# Altium schematic symbol library kmilo17pet-NSC_Amplifier.SchLib: 1665 symbols (part 43 of 44)
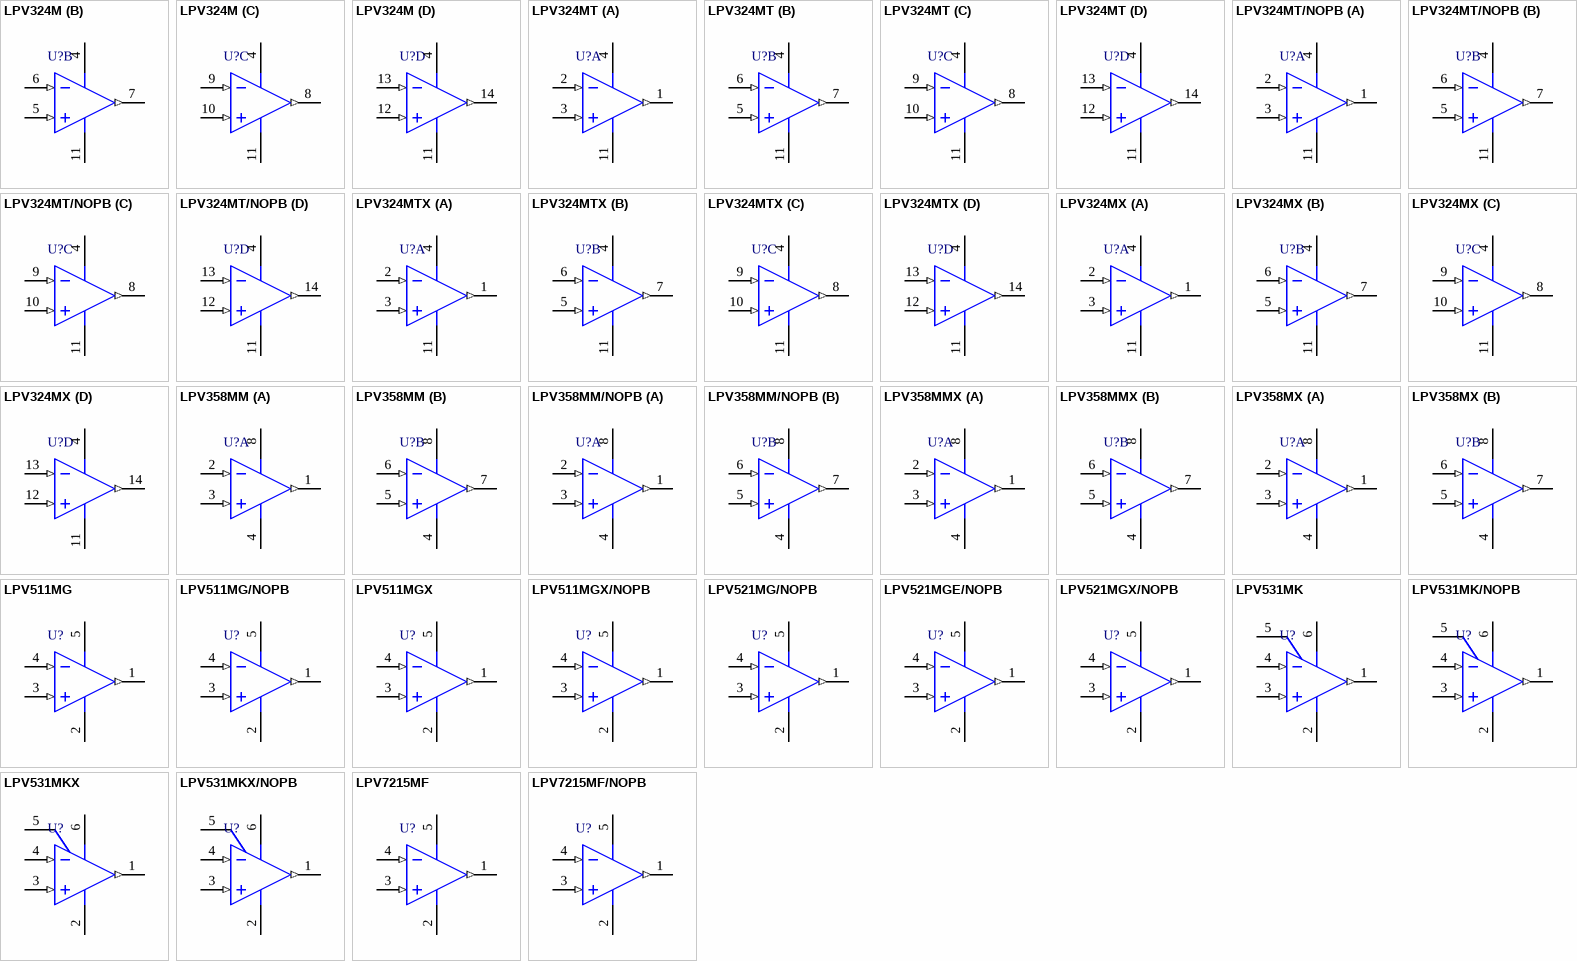
[diagram p126: symbols LPV324M to LPV7215MF/NOPB]

## LPV324M
designator U?
General Purpose, Low Voltage, Low Power, Rail-to-Rail Output Operational Amplifiers, 14-pin Narrow SOIC; PartNumber: LPV324M; Manufacturer: National Semiconductor; PackageTopMarking: NSUZXYTTE#*LPV324M; PowerWise: Y; DatasheetVersion: Oct-2006; PackageVersion: revJ, Jan-1996; PackageReference: M14A; PackageDescription: Molded Package S.O., .150in Wide, 14 Lead; RoHS: N; PinCount: 14; CompType: Amplifiers; High-Reliability: Y; Code_JEDEC: MS-012AB; Code_IPC: SOIC127P600-14; ComponentLink1Description: Manufacturer URL; ComponentLink1URL: http://www.national.com/; ComponentLink2Description: LPV324 Datasheet; ComponentLink2URL: http://www.national.com/ds/LP/LPV324.pdf; ComponentLink3Description: LPV324 Web Page; ComponentLink3URL: http://www.national.com/pf/LP/LPV324.html; ComponentLink4Description: M14A Package Page; ComponentLink4URL: http://www.national.com/packaging/folders/m14a.html
footprint M14A_N (SOIC, 14-Leads, Body 8.6x3.9mm, Pitch 1.27mm, IPC Medium Density)
footprint M14A_L (SOIC, 14-Leads, Body 8.6x3.9mm, Pitch 1.27mm, IPC High Density)
footprint M14A_M (SOIC, 14-Leads, Body 8.6x3.9mm, Pitch 1.27mm, IPC Low Density)
pins on every part: 4 V+ (power), 11 V- (power)
part A pins: 1 OUTA (out), 2 INA- (in), 3 INA+ (in)
part B pins: 5 INB+ (in), 6 INB- (in), 7 OUTB (out)
part C pins: 8 OUTC (out), 9 INC- (in), 10 INC+ (in)
part D pins: 12 IND+ (in), 13 IND- (in), 14 OUTD (out)

## LPV324MT
designator U?
General Purpose, Low Voltage, Low Power, Rail-to-Rail Output Operational Amplifiers, 14-pin TSSOP; PartNumber: LPV324MT; Manufacturer: National Semiconductor; PackageTopMarking: NSXYTT*LPV324*MT; PowerWise: Y; DatasheetVersion: Oct-2006; PackageVersion: revD, Jun-2003; PackageReference: MTC14; PackageDescription: Molded TSSOP, JEDEC, 5 x 4.4 x 0.9mm Body, 14 Lead, 0.65mm Pitch; RoHS: N; PinCount: 14; CompType: Amplifiers; High-Reliability: Y; Code_JEDEC: MO-153-AB-1; ComponentLink1Description: Manufacturer URL; ComponentLink1URL: http://www.national.com/; ComponentLink2Description: LPV324 Datasheet; ComponentLink2URL: http://www.national.com/ds/LP/LPV324.pdf; ComponentLink3Description: LPV324 Web Page; ComponentLink3URL: http://www.national.com/pf/LP/LPV324.html; ComponentLink4Description: MTC14 Package Page; ComponentLink4URL: http://www.national.com/packaging/folders/mtc14.html
footprint MTC14_N (TSOP, 14-Leads, Body 5x4.4mm, Pitch 0.65mm, IPC Medium Density)
footprint MTC14_L (TSOP, 14-Leads, Body 5x4.4mm, Pitch 0.65mm, IPC High Density)
footprint MTC14_M (TSOP, 14-Leads, Body 5x4.4mm, Pitch 0.65mm, IPC Low Density)
pins on every part: 4 V+ (power), 11 V- (power)
part A pins: 1 OUTA (out), 2 INA- (in), 3 INA+ (in)
part B pins: 5 INB+ (in), 6 INB- (in), 7 OUTB (out)
part C pins: 8 OUTC (out), 9 INC- (in), 10 INC+ (in)
part D pins: 12 IND+ (in), 13 IND- (in), 14 OUTD (out)

## LPV324MT/NOPB
designator U?
General Purpose, Low Voltage, Low Power, Rail-to-Rail Output Operational Amplifiers, 14-pin TSSOP, Pb-Free; PartNumber: LPV324MT/NOPB; Manufacturer: National Semiconductor; PackageTopMarking: NSXYTT*LPV324*MT; PowerWise: Y; DatasheetVersion: Oct-2006; PackageVersion: revD, Jun-2003; PackageReference: MTC14; PackageDescription: Molded TSSOP, JEDEC, 5 x 4.4 x 0.9mm Body, 14 Lead, 0.65mm Pitch; RoHS: Y; PinCount: 14; CompType: Amplifiers; High-Reliability: Y; Code_JEDEC: MO-153-AB-1; ComponentLink1Description: Manufacturer URL; ComponentLink1URL: http://www.national.com/; ComponentLink2Description: LPV324 Datasheet; ComponentLink2URL: http://www.national.com/ds/LP/LPV324.pdf; ComponentLink3Description: LPV324 Web Page; ComponentLink3URL: http://www.national.com/pf/LP/LPV324.html; ComponentLink4Description: MTC14 Package Page; ComponentLink4URL: http://www.national.com/packaging/folders/mtc14.html
footprint MTC14_N (TSOP, 14-Leads, Body 5x4.4mm, Pitch 0.65mm, IPC Medium Density)
footprint MTC14_L (TSOP, 14-Leads, Body 5x4.4mm, Pitch 0.65mm, IPC High Density)
footprint MTC14_M (TSOP, 14-Leads, Body 5x4.4mm, Pitch 0.65mm, IPC Low Density)
pins on every part: 4 V+ (power), 11 V- (power)
part A pins: 1 OUTA (out), 2 INA- (in), 3 INA+ (in)
part B pins: 5 INB+ (in), 6 INB- (in), 7 OUTB (out)
part C pins: 8 OUTC (out), 9 INC- (in), 10 INC+ (in)
part D pins: 12 IND+ (in), 13 IND- (in), 14 OUTD (out)

## LPV324MTX
designator U?
General Purpose, Low Voltage, Low Power, Rail-to-Rail Output Operational Amplifiers, 14-pin TSSOP; PartNumber: LPV324MTX; Manufacturer: National Semiconductor; PackageTopMarking: NSXYTT*LPV324*MT; PowerWise: Y; DatasheetVersion: Oct-2006; PackageVersion: revD, Jun-2003; PackageReference: MTC14; PackageDescription: Molded TSSOP, JEDEC, 5 x 4.4 x 0.9mm Body, 14 Lead, 0.65mm Pitch; RoHS: N; PinCount: 14; CompType: Amplifiers; High-Reliability: Y; Code_JEDEC: MO-153-AB-1; ComponentLink1Description: Manufacturer URL; ComponentLink1URL: http://www.national.com/; ComponentLink2Description: LPV324 Datasheet; ComponentLink2URL: http://www.national.com/ds/LP/LPV324.pdf; ComponentLink3Description: LPV324 Web Page; ComponentLink3URL: http://www.national.com/pf/LP/LPV324.html; ComponentLink4Description: MTC14 Package Page; ComponentLink4URL: http://www.national.com/packaging/folders/mtc14.html
footprint MTC14_N (TSOP, 14-Leads, Body 5x4.4mm, Pitch 0.65mm, IPC Medium Density)
footprint MTC14_L (TSOP, 14-Leads, Body 5x4.4mm, Pitch 0.65mm, IPC High Density)
footprint MTC14_M (TSOP, 14-Leads, Body 5x4.4mm, Pitch 0.65mm, IPC Low Density)
pins on every part: 4 V+ (power), 11 V- (power)
part A pins: 1 OUTA (out), 2 INA- (in), 3 INA+ (in)
part B pins: 5 INB+ (in), 6 INB- (in), 7 OUTB (out)
part C pins: 8 OUTC (out), 9 INC- (in), 10 INC+ (in)
part D pins: 12 IND+ (in), 13 IND- (in), 14 OUTD (out)

## LPV324MX
designator U?
General Purpose, Low Voltage, Low Power, Rail-to-Rail Output Operational Amplifiers, 14-pin Narrow SOIC; PartNumber: LPV324MX; Manufacturer: National Semiconductor; PackageTopMarking: NSUZXYTTE#*LPV324M; PowerWise: Y; DatasheetVersion: Oct-2006; PackageVersion: revJ, Jan-1996; PackageReference: M14A; PackageDescription: Molded Package S.O., .150in Wide, 14 Lead; RoHS: N; PinCount: 14; CompType: Amplifiers; High-Reliability: Y; Code_JEDEC: MS-012AB; Code_IPC: SOIC127P600-14; ComponentLink1Description: Manufacturer URL; ComponentLink1URL: http://www.national.com/; ComponentLink2Description: LPV324 Datasheet; ComponentLink2URL: http://www.national.com/ds/LP/LPV324.pdf; ComponentLink3Description: LPV324 Web Page; ComponentLink3URL: http://www.national.com/pf/LP/LPV324.html; ComponentLink4Description: M14A Package Page; ComponentLink4URL: http://www.national.com/packaging/folders/m14a.html
footprint M14A_N (SOIC, 14-Leads, Body 8.6x3.9mm, Pitch 1.27mm, IPC Medium Density)
footprint M14A_L (SOIC, 14-Leads, Body 8.6x3.9mm, Pitch 1.27mm, IPC High Density)
footprint M14A_M (SOIC, 14-Leads, Body 8.6x3.9mm, Pitch 1.27mm, IPC Low Density)
pins on every part: 4 V+ (power), 11 V- (power)
part A pins: 1 OUTA (out), 2 INA- (in), 3 INA+ (in)
part B pins: 5 INB+ (in), 6 INB- (in), 7 OUTB (out)
part C pins: 8 OUTC (out), 9 INC- (in), 10 INC+ (in)
part D pins: 12 IND+ (in), 13 IND- (in), 14 OUTD (out)

## LPV358MM
designator U?
General Purpose, Low Voltage, Low Power, Rail-to-Rail Output Operational Amplifiers, 8-pin Mini SOIC; PartNumber: LPV358MM; Manufacturer: National Semiconductor; PackageTopMarking: ZXTT*P358; PowerWise: Y; DatasheetVersion: Oct-2006; PackageVersion: revF, Apr-2008; PackageReference: MUA08A; PackageDescription: MINI SOIC, .118 x .118 x .034in, 8 Lead, .0256in Pitch; RoHS: N; PinCount: 8; CompType: Amplifiers; High-Reliability: Y; Code_JEDEC: MO-187-AA; ComponentLink1Description: Manufacturer URL; ComponentLink1URL: http://www.national.com/; ComponentLink2Description: LPV358 Datasheet; ComponentLink2URL: http://www.national.com/ds/LP/LPV358.pdf; ComponentLink3Description: LPV358 Web Page; ComponentLink3URL: http://www.national.com/pf/LP/LPV358.html; ComponentLink4Description: MUA08A Package Page; ComponentLink4URL: http://www.national.com/packaging/folders/mua08a.html
footprint MUA08A_N (TSOP, 8-Leads, Body 3x3mm, Pitch 0.65mm, IPC Medium Density)
footprint MUA08A_L (TSOP, 8-Leads, Body 3x3mm, Pitch 0.65mm, IPC High Density)
footprint MUA08A_M (TSOP, 8-Leads, Body 3x3mm, Pitch 0.65mm, IPC Low Density)
pins on every part: 4 V- (power), 8 V+ (power)
part A pins: 1 OUTA (out), 2 INA- (in), 3 INA+ (in)
part B pins: 5 INB+ (in), 6 INB- (in), 7 OUTB (out)

## LPV358MM/NOPB
designator U?
General Purpose, Low Voltage, Low Power, Rail-to-Rail Output Operational Amplifiers, 8-pin Mini SOIC, Pb-Free; PartNumber: LPV358MM/NOPB; Manufacturer: National Semiconductor; PackageTopMarking: ZXTT*P358; PowerWise: Y; DatasheetVersion: Oct-2006; PackageVersion: revF, Apr-2008; PackageReference: MUA08A; PackageDescription: MINI SOIC, .118 x .118 x .034in, 8 Lead, .0256in Pitch; RoHS: Y; PinCount: 8; CompType: Amplifiers; High-Reliability: Y; Code_JEDEC: MO-187-AA; ComponentLink1Description: Manufacturer URL; ComponentLink1URL: http://www.national.com/; ComponentLink2Description: LPV358 Datasheet; ComponentLink2URL: http://www.national.com/ds/LP/LPV358.pdf; ComponentLink3Description: LPV358 Web Page; ComponentLink3URL: http://www.national.com/pf/LP/LPV358.html; ComponentLink4Description: MUA08A Package Page; ComponentLink4URL: http://www.national.com/packaging/folders/mua08a.html
footprint MUA08A_N (TSOP, 8-Leads, Body 3x3mm, Pitch 0.65mm, IPC Medium Density)
footprint MUA08A_L (TSOP, 8-Leads, Body 3x3mm, Pitch 0.65mm, IPC High Density)
footprint MUA08A_M (TSOP, 8-Leads, Body 3x3mm, Pitch 0.65mm, IPC Low Density)
pins on every part: 4 V- (power), 8 V+ (power)
part A pins: 1 OUTA (out), 2 INA- (in), 3 INA+ (in)
part B pins: 5 INB+ (in), 6 INB- (in), 7 OUTB (out)

## LPV358MMX
designator U?
General Purpose, Low Voltage, Low Power, Rail-to-Rail Output Operational Amplifiers, 8-pin Mini SOIC; PartNumber: LPV358MMX; Manufacturer: National Semiconductor; PackageTopMarking: ZXTT*P358; PowerWise: Y; DatasheetVersion: Oct-2006; PackageVersion: revF, Apr-2008; PackageReference: MUA08A; PackageDescription: MINI SOIC, .118 x .118 x .034in, 8 Lead, .0256in Pitch; RoHS: N; PinCount: 8; CompType: Amplifiers; High-Reliability: Y; Code_JEDEC: MO-187-AA; ComponentLink1Description: Manufacturer URL; ComponentLink1URL: http://www.national.com/; ComponentLink2Description: LPV358 Datasheet; ComponentLink2URL: http://www.national.com/ds/LP/LPV358.pdf; ComponentLink3Description: LPV358 Web Page; ComponentLink3URL: http://www.national.com/pf/LP/LPV358.html; ComponentLink4Description: MUA08A Package Page; ComponentLink4URL: http://www.national.com/packaging/folders/mua08a.html
footprint MUA08A_N (TSOP, 8-Leads, Body 3x3mm, Pitch 0.65mm, IPC Medium Density)
footprint MUA08A_L (TSOP, 8-Leads, Body 3x3mm, Pitch 0.65mm, IPC High Density)
footprint MUA08A_M (TSOP, 8-Leads, Body 3x3mm, Pitch 0.65mm, IPC Low Density)
pins on every part: 4 V- (power), 8 V+ (power)
part A pins: 1 OUTA (out), 2 INA- (in), 3 INA+ (in)
part B pins: 5 INB+ (in), 6 INB- (in), 7 OUTB (out)

## LPV358MX
designator U?
General Purpose, Low Voltage, Low Power, Rail-to-Rail Output Operational Amplifiers, 8-pin Narrow SOIC; PartNumber: LPV358MX; Manufacturer: National Semiconductor; PackageTopMarking: NSZXTT*LPV*358M; PowerWise: Y; DatasheetVersion: Oct-2006; PackageVersion: revM, May-2009; PackageReference: M08A; PackageDescription: SOIC Narrow, 4.9 x 3.9 x 1.45mm, 8 Lead, 1.27mm Pitch; RoHS: N; PinCount: 8; CompType: Amplifiers; High-Reliability: Y; Code_JEDEC: MS-012-AA; Code_IPC: SOIC127P600-8; ComponentLink1Description: Manufacturer URL; ComponentLink1URL: http://www.national.com/; ComponentLink2Description: LPV358 Datasheet; ComponentLink2URL: http://www.national.com/ds/LP/LPV358.pdf; ComponentLink3Description: LPV358 Web Page; ComponentLink3URL: http://www.national.com/pf/LP/LPV358.html; ComponentLink4Description: M08A Package Page; ComponentLink4URL: http://www.national.com/packaging/folders/m08a.html
footprint M08A_N (SOIC, 8-Leads, Body 4.9x3.9mm, Pitch 1.27mm, IPC Medium Density)
footprint M08A_L (SOIC, 8-Leads, Body 4.9x3.9mm, Pitch 1.27mm, IPC High Density)
footprint M08A_M (SOIC, 8-Leads, Body 4.9x3.9mm, Pitch 1.27mm, IPC Low Density)
pins on every part: 4 V- (power), 8 V+ (power)
part A pins: 1 OUTA (out), 2 INA- (in), 3 INA+ (in)
part B pins: 5 INB+ (in), 6 INB- (in), 7 OUTB (out)

## LPV511MG
designator U?
micropower Rail-to-Rail Input and Output Operational Amplifier, 5-pin SC-70; PartNumber: LPV511MG; Manufacturer: National Semiconductor; PackageTopMarking: A91*XTT; PowerWise: Y; CompType: Amplifiers; DatasheetVersion: Jan-2007; PackageVersion: revD, Jun-2007; PackageReference: MAA05A; PackageDescription: Molded SC-70, 2 x 1.25 x .9mm, 5 Lead, 0.65mm Pitch; RoHS: N; PinCount: 5; High-Reliability: Y; Code_JEITA: SC-88A; Code_JEDEC: MO-203-AA; Code_IPC: SOT353-5; ComponentLink1Description: Manufacturer URL; ComponentLink1URL: http://www.national.com/; ComponentLink2Description: LPV511 Datasheet; ComponentLink2URL: http://www.national.com/ds/LP/LPV511.pdf; ComponentLink3Description: LPV511 Web Page; ComponentLink3URL: http://www.national.com/pf/LP/LPV511.html; ComponentLink4Description: MAA05A Package Page; ComponentLink4URL: http://www.national.com/packaging/folders/maa05a.html
footprint MAA05A_N (SOT353, 5-Leads, Body 2x1.3mm, Pitch 0.65mm, Lead Span 2.1mm, IPC Medium Density)
footprint MAA05A_L (SOT353, 5-Leads, Body 2x1.3mm, Pitch 0.65mm, Lead Span 2.1mm, IPC High Density)
footprint MAA05A_M (SOT353, 5-Leads, Body 2x1.3mm, Pitch 0.65mm, Lead Span 2.1mm, IPC Low Density)
pins: 1 OUT (out), 2 V- (power), 3 IN+ (in), 4 IN- (in), 5 V+ (power)

## LPV511MG/NOPB
designator U?
micropower Rail-to-Rail Input and Output Operational Amplifier, 5-pin SC-70, Pb-Free; PartNumber: LPV511MG/NOPB; Manufacturer: National Semiconductor; PackageTopMarking: A91*XTT; PowerWise: Y; CompType: Amplifiers; DatasheetVersion: Jan-2007; PackageVersion: revD, Jun-2007; PackageReference: MAA05A; PackageDescription: Molded SC-70, 2 x 1.25 x .9mm, 5 Lead, 0.65mm Pitch; RoHS: Y; PinCount: 5; High-Reliability: Y; Code_JEITA: SC-88A; Code_JEDEC: MO-203-AA; Code_IPC: SOT353-5; ComponentLink1Description: Manufacturer URL; ComponentLink1URL: http://www.national.com/; ComponentLink2Description: LPV511 Datasheet; ComponentLink2URL: http://www.national.com/ds/LP/LPV511.pdf; ComponentLink3Description: LPV511 Web Page; ComponentLink3URL: http://www.national.com/pf/LP/LPV511.html; ComponentLink4Description: MAA05A Package Page; ComponentLink4URL: http://www.national.com/packaging/folders/maa05a.html
footprint MAA05A_N (SOT353, 5-Leads, Body 2x1.3mm, Pitch 0.65mm, Lead Span 2.1mm, IPC Medium Density)
footprint MAA05A_L (SOT353, 5-Leads, Body 2x1.3mm, Pitch 0.65mm, Lead Span 2.1mm, IPC High Density)
footprint MAA05A_M (SOT353, 5-Leads, Body 2x1.3mm, Pitch 0.65mm, Lead Span 2.1mm, IPC Low Density)
pins: 1 OUT (out), 2 V- (power), 3 IN+ (in), 4 IN- (in), 5 V+ (power)

## LPV511MGX
designator U?
micropower Rail-to-Rail Input and Output Operational Amplifier, 5-pin SC-70; PartNumber: LPV511MGX; Manufacturer: National Semiconductor; PackageTopMarking: A91*XTT; PowerWise: Y; CompType: Amplifiers; DatasheetVersion: Jan-2007; PackageVersion: revD, Jun-2007; PackageReference: MAA05A; PackageDescription: Molded SC-70, 2 x 1.25 x .9mm, 5 Lead, 0.65mm Pitch; RoHS: N; PinCount: 5; High-Reliability: Y; Code_JEITA: SC-88A; Code_JEDEC: MO-203-AA; Code_IPC: SOT353-5; ComponentLink1Description: Manufacturer URL; ComponentLink1URL: http://www.national.com/; ComponentLink2Description: LPV511 Datasheet; ComponentLink2URL: http://www.national.com/ds/LP/LPV511.pdf; ComponentLink3Description: LPV511 Web Page; ComponentLink3URL: http://www.national.com/pf/LP/LPV511.html; ComponentLink4Description: MAA05A Package Page; ComponentLink4URL: http://www.national.com/packaging/folders/maa05a.html
footprint MAA05A_N (SOT353, 5-Leads, Body 2x1.3mm, Pitch 0.65mm, Lead Span 2.1mm, IPC Medium Density)
footprint MAA05A_L (SOT353, 5-Leads, Body 2x1.3mm, Pitch 0.65mm, Lead Span 2.1mm, IPC High Density)
footprint MAA05A_M (SOT353, 5-Leads, Body 2x1.3mm, Pitch 0.65mm, Lead Span 2.1mm, IPC Low Density)
pins: 1 OUT (out), 2 V- (power), 3 IN+ (in), 4 IN- (in), 5 V+ (power)

## LPV511MGX/NOPB
designator U?
micropower Rail-to-Rail Input and Output Operational Amplifier, 5-pin SC-70, Pb-Free; PartNumber: LPV511MGX/NOPB; Manufacturer: National Semiconductor; PackageTopMarking: A91*XTT; PowerWise: Y; CompType: Amplifiers; DatasheetVersion: Jan-2007; PackageVersion: revD, Jun-2007; PackageReference: MAA05A; PackageDescription: Molded SC-70, 2 x 1.25 x .9mm, 5 Lead, 0.65mm Pitch; RoHS: Y; PinCount: 5; High-Reliability: Y; Code_JEITA: SC-88A; Code_JEDEC: MO-203-AA; Code_IPC: SOT353-5; ComponentLink1Description: Manufacturer URL; ComponentLink1URL: http://www.national.com/; ComponentLink2Description: LPV511 Datasheet; ComponentLink2URL: http://www.national.com/ds/LP/LPV511.pdf; ComponentLink3Description: LPV511 Web Page; ComponentLink3URL: http://www.national.com/pf/LP/LPV511.html; ComponentLink4Description: MAA05A Package Page; ComponentLink4URL: http://www.national.com/packaging/folders/maa05a.html
footprint MAA05A_N (SOT353, 5-Leads, Body 2x1.3mm, Pitch 0.65mm, Lead Span 2.1mm, IPC Medium Density)
footprint MAA05A_L (SOT353, 5-Leads, Body 2x1.3mm, Pitch 0.65mm, Lead Span 2.1mm, IPC High Density)
footprint MAA05A_M (SOT353, 5-Leads, Body 2x1.3mm, Pitch 0.65mm, Lead Span 2.1mm, IPC Low Density)
pins: 1 OUT (out), 2 V- (power), 3 IN+ (in), 4 IN- (in), 5 V+ (power)

## LPV521MG/NOPB
designator U?
Nanopower, 1.8V, RRIO, CMOS Input, Operational Amplifier, 5-pin SC-70, Pb-Free; PartNumber: LPV521MG/NOPB; Manufacturer: National Semiconductor; PackageTopMarking: AHA*XTT; PowerWise: Y; CompType: Amplifiers; DatasheetVersion: Aug-2009; PackageVersion: revD, Jun-2007; PackageReference: MAA05A; PackageDescription: Molded SC-70, 2 x 1.25 x .9mm, 5 Lead, 0.65mm Pitch; RoHS: Y; PinCount: 5; High-Reliability: Y; Code_JEITA: SC-88A; Code_JEDEC: MO-203-AA; Code_IPC: SOT353-5; ComponentLink1Description: Manufacturer URL; ComponentLink1URL: http://www.national.com/; ComponentLink2Description: LPV521 Datasheet; ComponentLink2URL: http://www.national.com/ds/LP/LPV521.pdf; ComponentLink3Description: LPV521 Web Page; ComponentLink3URL: http://www.national.com/pf/LP/LPV521.html; ComponentLink4Description: MAA05A Package Page; ComponentLink4URL: http://www.national.com/packaging/folders/maa05a.html
footprint MAA05A_N (SOT353, 5-Leads, Body 2x1.3mm, Pitch 0.65mm, Lead Span 2.1mm, IPC Medium Density)
footprint MAA05A_L (SOT353, 5-Leads, Body 2x1.3mm, Pitch 0.65mm, Lead Span 2.1mm, IPC High Density)
footprint MAA05A_M (SOT353, 5-Leads, Body 2x1.3mm, Pitch 0.65mm, Lead Span 2.1mm, IPC Low Density)
pins: 1 OUT (out), 2 V- (power), 3 IN+ (in), 4 IN- (in), 5 V+ (power)

## LPV521MGE/NOPB
designator U?
Nanopower, 1.8V, RRIO, CMOS Input, Operational Amplifier, 5-pin SC-70, Pb-Free; PartNumber: LPV521MGE/NOPB; Manufacturer: National Semiconductor; PackageTopMarking: AHA*XTT; PowerWise: Y; CompType: Amplifiers; DatasheetVersion: Aug-2009; PackageVersion: revD, Jun-2007; PackageReference: MAA05A; PackageDescription: Molded SC-70, 2 x 1.25 x .9mm, 5 Lead, 0.65mm Pitch; RoHS: Y; PinCount: 5; High-Reliability: Y; Code_JEITA: SC-88A; Code_JEDEC: MO-203-AA; Code_IPC: SOT353-5; ComponentLink1Description: Manufacturer URL; ComponentLink1URL: http://www.national.com/; ComponentLink2Description: LPV521 Datasheet; ComponentLink2URL: http://www.national.com/ds/LP/LPV521.pdf; ComponentLink3Description: LPV521 Web Page; ComponentLink3URL: http://www.national.com/pf/LP/LPV521.html; ComponentLink4Description: MAA05A Package Page; ComponentLink4URL: http://www.national.com/packaging/folders/maa05a.html
footprint MAA05A_N (SOT353, 5-Leads, Body 2x1.3mm, Pitch 0.65mm, Lead Span 2.1mm, IPC Medium Density)
footprint MAA05A_L (SOT353, 5-Leads, Body 2x1.3mm, Pitch 0.65mm, Lead Span 2.1mm, IPC High Density)
footprint MAA05A_M (SOT353, 5-Leads, Body 2x1.3mm, Pitch 0.65mm, Lead Span 2.1mm, IPC Low Density)
pins: 1 OUT (out), 2 V- (power), 3 IN+ (in), 4 IN- (in), 5 V+ (power)

## LPV521MGX/NOPB
designator U?
Nanopower, 1.8V, RRIO, CMOS Input, Operational Amplifier, 5-pin SC-70, Pb-Free; PartNumber: LPV521MGX/NOPB; Manufacturer: National Semiconductor; PackageTopMarking: AHA*XTT; PowerWise: Y; CompType: Amplifiers; DatasheetVersion: Aug-2009; PackageVersion: revD, Jun-2007; PackageReference: MAA05A; PackageDescription: Molded SC-70, 2 x 1.25 x .9mm, 5 Lead, 0.65mm Pitch; RoHS: Y; PinCount: 5; High-Reliability: Y; Code_JEITA: SC-88A; Code_JEDEC: MO-203-AA; Code_IPC: SOT353-5; ComponentLink1Description: Manufacturer URL; ComponentLink1URL: http://www.national.com/; ComponentLink2Description: LPV521 Datasheet; ComponentLink2URL: http://www.national.com/ds/LP/LPV521.pdf; ComponentLink3Description: LPV521 Web Page; ComponentLink3URL: http://www.national.com/pf/LP/LPV521.html; ComponentLink4Description: MAA05A Package Page; ComponentLink4URL: http://www.national.com/packaging/folders/maa05a.html
footprint MAA05A_N (SOT353, 5-Leads, Body 2x1.3mm, Pitch 0.65mm, Lead Span 2.1mm, IPC Medium Density)
footprint MAA05A_L (SOT353, 5-Leads, Body 2x1.3mm, Pitch 0.65mm, Lead Span 2.1mm, IPC High Density)
footprint MAA05A_M (SOT353, 5-Leads, Body 2x1.3mm, Pitch 0.65mm, Lead Span 2.1mm, IPC Low Density)
pins: 1 OUT (out), 2 V- (power), 3 IN+ (in), 4 IN- (in), 5 V+ (power)

## LPV531MK
designator U?
Programmable Micropower CMOS Input, Rail-to-Rail Output Operational Amplifier, 6-pin Tiny SOT23; PartNumber: LPV531MK; Manufacturer: National Semiconductor; PackageTopMarking: AV2A*XTT; PowerWise: Y; CompType: Amplifiers; DatasheetVersion: May-2006; PackageVersion: revE, Nov-2008; PackageReference: MK06A; PackageDescription: Molded TSOT, 2.97 x 1.65 x 0.87mm Body, 6 Lead, 0.95mm Pitch; RoHS: N; PinCount: 6; High-Reliability: Y; Code_JEDEC: MO-193-AA; Code_IPC: SOT26A-6; ComponentLink1Description: Manufacturer URL; ComponentLink1URL: http://www.national.com/; ComponentLink2Description: LPV531 Datasheet; ComponentLink2URL: http://www.national.com/ds/LP/LPV531.pdf; ComponentLink3Description: LPV531 Web Page; ComponentLink3URL: http://www.national.com/pf/LP/LPV531.html; ComponentLink4Description: MK06A Package Page; ComponentLink4URL: http://www.national.com/packaging/folders/mk06a.html
footprint MK06A_N (SOT23, 6-Leads, Body 3.0x1.7mm, Pitch 0.95mm, Lead Span 2.9mm, IPC Medium Density)
footprint MK06A_L (SOT23, 6-Leads, Body 3.0x1.7mm, Pitch 0.95mm, Lead Span 2.9mm, IPC High Density)
footprint MK06A_M (SOT23, 6-Leads, Body 3.0x1.7mm, Pitch 0.95mm, Lead Span 2.9mm, IPC Low Density)
pins: 1 OUT (out), 2 V- (power), 3 IN+ (in), 4 IN- (in), 5 ISEL, 6 V+ (power)

## LPV531MK/NOPB
designator U?
Programmable Micropower CMOS Input, Rail-to-Rail Output Operational Amplifier, 6-pin Tiny SOT23, Pb-Free; PartNumber: LPV531MK/NOPB; Manufacturer: National Semiconductor; PackageTopMarking: AV2A*XTT; PowerWise: Y; CompType: Amplifiers; DatasheetVersion: May-2006; PackageVersion: revE, Nov-2008; PackageReference: MK06A; PackageDescription: Molded TSOT, 2.97 x 1.65 x 0.87mm Body, 6 Lead, 0.95mm Pitch; RoHS: Y; PinCount: 6; High-Reliability: Y; Code_JEDEC: MO-193-AA; Code_IPC: SOT26A-6; ComponentLink1Description: Manufacturer URL; ComponentLink1URL: http://www.national.com/; ComponentLink2Description: LPV531 Datasheet; ComponentLink2URL: http://www.national.com/ds/LP/LPV531.pdf; ComponentLink3Description: LPV531 Web Page; ComponentLink3URL: http://www.national.com/pf/LP/LPV531.html; ComponentLink4Description: MK06A Package Page; ComponentLink4URL: http://www.national.com/packaging/folders/mk06a.html
footprint MK06A_N (SOT23, 6-Leads, Body 3.0x1.7mm, Pitch 0.95mm, Lead Span 2.9mm, IPC Medium Density)
footprint MK06A_L (SOT23, 6-Leads, Body 3.0x1.7mm, Pitch 0.95mm, Lead Span 2.9mm, IPC High Density)
footprint MK06A_M (SOT23, 6-Leads, Body 3.0x1.7mm, Pitch 0.95mm, Lead Span 2.9mm, IPC Low Density)
pins: 1 OUT (out), 2 V- (power), 3 IN+ (in), 4 IN- (in), 5 ISEL, 6 V+ (power)

## LPV531MKX
designator U?
Programmable Micropower CMOS Input, Rail-to-Rail Output Operational Amplifier, 6-pin Tiny SOT23; PartNumber: LPV531MKX; Manufacturer: National Semiconductor; PackageTopMarking: AV2A*XTT; PowerWise: Y; CompType: Amplifiers; DatasheetVersion: May-2006; PackageVersion: revE, Nov-2008; PackageReference: MK06A; PackageDescription: Molded TSOT, 2.97 x 1.65 x 0.87mm Body, 6 Lead, 0.95mm Pitch; RoHS: N; PinCount: 6; High-Reliability: Y; Code_JEDEC: MO-193-AA; Code_IPC: SOT26A-6; ComponentLink1Description: Manufacturer URL; ComponentLink1URL: http://www.national.com/; ComponentLink2Description: LPV531 Datasheet; ComponentLink2URL: http://www.national.com/ds/LP/LPV531.pdf; ComponentLink3Description: LPV531 Web Page; ComponentLink3URL: http://www.national.com/pf/LP/LPV531.html; ComponentLink4Description: MK06A Package Page; ComponentLink4URL: http://www.national.com/packaging/folders/mk06a.html
footprint MK06A_N (SOT23, 6-Leads, Body 3.0x1.7mm, Pitch 0.95mm, Lead Span 2.9mm, IPC Medium Density)
footprint MK06A_L (SOT23, 6-Leads, Body 3.0x1.7mm, Pitch 0.95mm, Lead Span 2.9mm, IPC High Density)
footprint MK06A_M (SOT23, 6-Leads, Body 3.0x1.7mm, Pitch 0.95mm, Lead Span 2.9mm, IPC Low Density)
pins: 1 OUT (out), 2 V- (power), 3 IN+ (in), 4 IN- (in), 5 ISEL, 6 V+ (power)

## LPV531MKX/NOPB
designator U?
Programmable Micropower CMOS Input, Rail-to-Rail Output Operational Amplifier, 6-pin Tiny SOT23, Pb-Free; PartNumber: LPV531MKX/NOPB; Manufacturer: National Semiconductor; PackageTopMarking: AV2A*XTT; PowerWise: Y; CompType: Amplifiers; DatasheetVersion: May-2006; PackageVersion: revE, Nov-2008; PackageReference: MK06A; PackageDescription: Molded TSOT, 2.97 x 1.65 x 0.87mm Body, 6 Lead, 0.95mm Pitch; RoHS: Y; PinCount: 6; High-Reliability: Y; Code_JEDEC: MO-193-AA; Code_IPC: SOT26A-6; ComponentLink1Description: Manufacturer URL; ComponentLink1URL: http://www.national.com/; ComponentLink2Description: LPV531 Datasheet; ComponentLink2URL: http://www.national.com/ds/LP/LPV531.pdf; ComponentLink3Description: LPV531 Web Page; ComponentLink3URL: http://www.national.com/pf/LP/LPV531.html; ComponentLink4Description: MK06A Package Page; ComponentLink4URL: http://www.national.com/packaging/folders/mk06a.html
footprint MK06A_N (SOT23, 6-Leads, Body 3.0x1.7mm, Pitch 0.95mm, Lead Span 2.9mm, IPC Medium Density)
footprint MK06A_L (SOT23, 6-Leads, Body 3.0x1.7mm, Pitch 0.95mm, Lead Span 2.9mm, IPC High Density)
footprint MK06A_M (SOT23, 6-Leads, Body 3.0x1.7mm, Pitch 0.95mm, Lead Span 2.9mm, IPC Low Density)
pins: 1 OUT (out), 2 V- (power), 3 IN+ (in), 4 IN- (in), 5 ISEL, 6 V+ (power)

## LPV7215MF
designator U?
Micropower, CMOS Input, RRIO, 1.8V, Push-Pull Output Comparator, 5-pin SOT-23; PartNumber: LPV7215MF; Manufacturer: National Semiconductor; PackageTopMarking: C30A*XTT; PowerWise: Y; CompType: Amplifiers; DatasheetVersion: Dec-2007; PackageVersion: revD, Aug-2008; PackageReference: MF05A; PackageDescription: Molded SOT-23, .115 x .063 x .040 in Body, 5 Lead, .0375 in Pitch; RoHS: Y; PinCount: 5; High-Reliability: Y; ComponentLink1Description: Manufacturer URL; ComponentLink1URL: http://www.national.com/; ComponentLink2Description: LPV7215 Datasheet; ComponentLink2URL: http://www.national.com/ds/LP/LPV7215.pdf; ComponentLink3Description: LPV7215 Web Page; ComponentLink3URL: http://www.national.com/pf/LP/LPV7215.html; ComponentLink4Description: MF05A Package Page; ComponentLink4URL: http://www.national.com/packaging/folders/mf05a.html
footprint MF05A_N (SOT23, 5-Leads, Body 2.9x1.6mm, Pitch 0.95mm, Lead Span 2.8mm, IPC Medium Density)
footprint MF05A_L (SOT23, 5-Leads, Body 2.9x1.6mm, Pitch 0.95mm, Lead Span 2.8mm, IPC High Density)
footprint MF05A_M (SOT23, 5-Leads, Body 2.9x1.6mm, Pitch 0.95mm, Lead Span 2.8mm, IPC Low Density)
pins: 1 VOUT (out), 2 V- (power), 3 IN+ (in), 4 IN- (in), 5 V+ (power)

## LPV7215MF/NOPB
designator U?
Micropower, CMOS Input, RRIO, 1.8V, Push-Pull Output Comparator, 5-pin SOT-23, Pb-Free; PartNumber: LPV7215MF/NOPB; Manufacturer: National Semiconductor; PackageTopMarking: C30A*XTT; PowerWise: Y; CompType: Amplifiers; DatasheetVersion: Dec-2007; PackageVersion: revD, Aug-2008; PackageReference: MF05A; PackageDescription: Molded SOT-23, .115 x .063 x .040 in Body, 5 Lead, .0375 in Pitch; RoHS: Y; PinCount: 5; High-Reliability: Y; ComponentLink1Description: Manufacturer URL; ComponentLink1URL: http://www.national.com/; ComponentLink2Description: LPV7215 Datasheet; ComponentLink2URL: http://www.national.com/ds/LP/LPV7215.pdf; ComponentLink3Description: LPV7215 Web Page; ComponentLink3URL: http://www.national.com/pf/LP/LPV7215.html; ComponentLink4Description: MF05A Package Page; ComponentLink4URL: http://www.national.com/packaging/folders/mf05a.html
footprint MF05A_N (SOT23, 5-Leads, Body 2.9x1.6mm, Pitch 0.95mm, Lead Span 2.8mm, IPC Medium Density)
footprint MF05A_L (SOT23, 5-Leads, Body 2.9x1.6mm, Pitch 0.95mm, Lead Span 2.8mm, IPC High Density)
footprint MF05A_M (SOT23, 5-Leads, Body 2.9x1.6mm, Pitch 0.95mm, Lead Span 2.8mm, IPC Low Density)
pins: 1 VOUT (out), 2 V- (power), 3 IN+ (in), 4 IN- (in), 5 V+ (power)

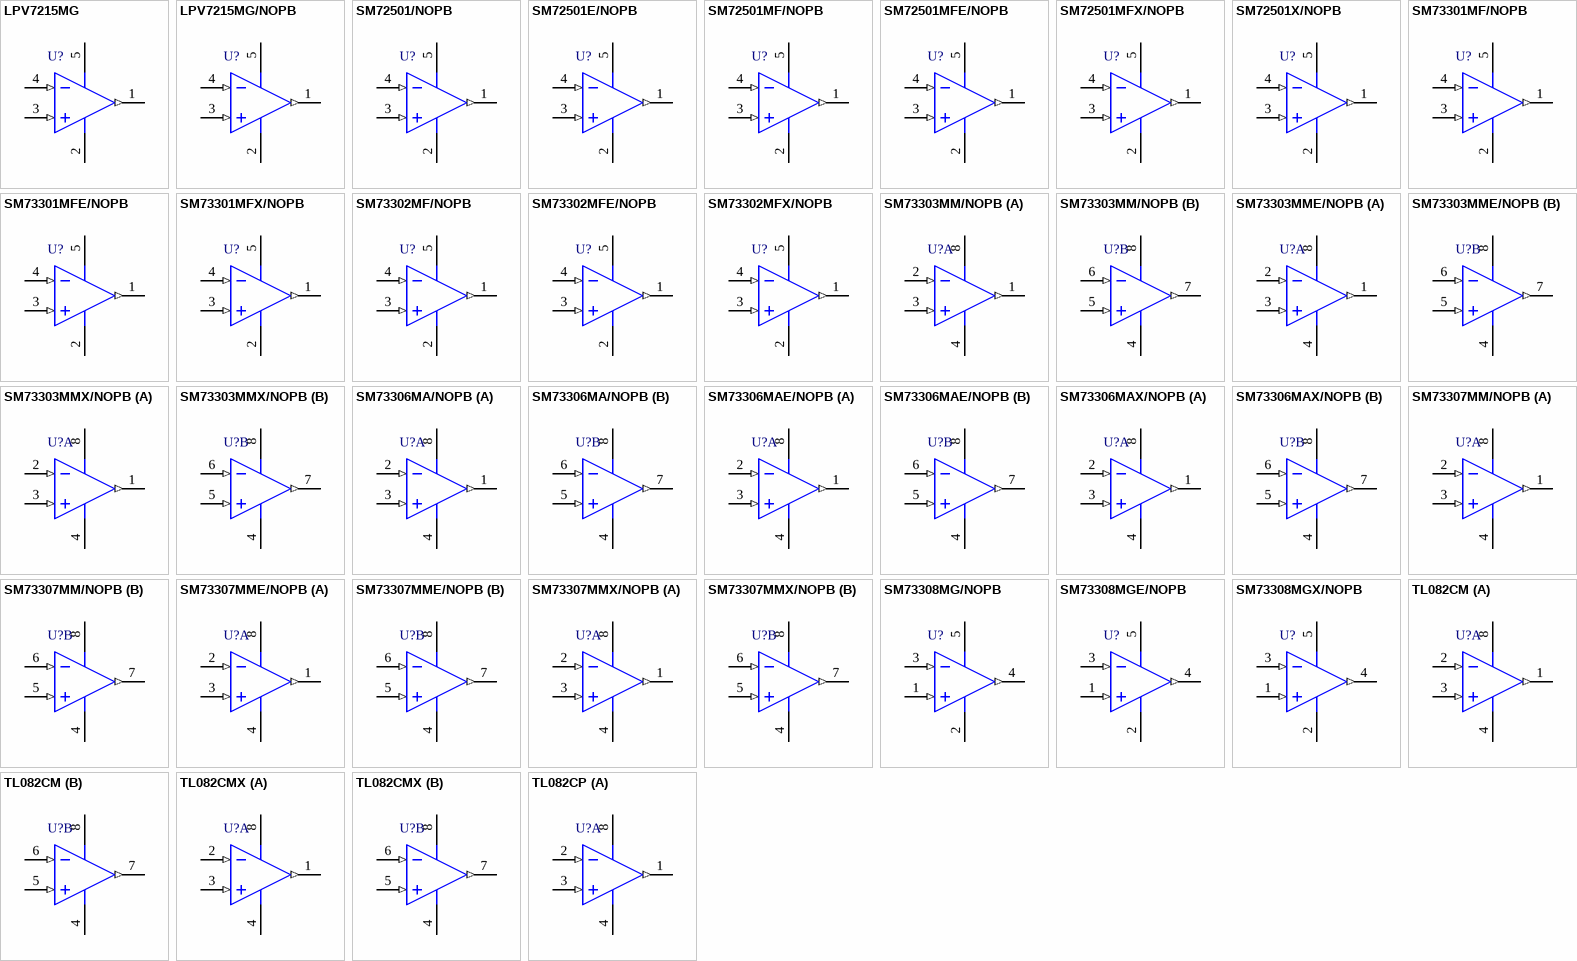
[diagram p83: symbols LPV7215MG to TL082CP]

## LPV7215MG
designator U?
Micropower, CMOS Input, RRIO, 1.8V, Push-Pull Output Comparator, 5-pin SC-70; PartNumber: LPV7215MG; Manufacturer: National Semiconductor; PackageTopMarking: C37*XTT; PowerWise: Y; CompType: Amplifiers; DatasheetVersion: Dec-2007; PackageVersion: revD, Jun-2007; PackageReference: MAA05A; PackageDescription: Molded SC-70, 2 x 1.25 x .9mm, 5 Lead, 0.65mm Pitch; RoHS: N; PinCount: 5; High-Reliability: Y; Code_JEITA: SC-88A; Code_JEDEC: MO-203-AA; Code_IPC: SOT353-5; ComponentLink1Description: Manufacturer URL; ComponentLink1URL: http://www.national.com/; ComponentLink2Description: LPV7215 Datasheet; ComponentLink2URL: http://www.national.com/ds/LP/LPV7215.pdf; ComponentLink3Description: LPV7215 Web Page; ComponentLink3URL: http://www.national.com/pf/LP/LPV7215.html; ComponentLink4Description: MAA05A Package Page; ComponentLink4URL: http://www.national.com/packaging/folders/maa05a.html
footprint MAA05A_N (SOT353, 5-Leads, Body 2x1.3mm, Pitch 0.65mm, Lead Span 2.1mm, IPC Medium Density)
footprint MAA05A_L (SOT353, 5-Leads, Body 2x1.3mm, Pitch 0.65mm, Lead Span 2.1mm, IPC High Density)
footprint MAA05A_M (SOT353, 5-Leads, Body 2x1.3mm, Pitch 0.65mm, Lead Span 2.1mm, IPC Low Density)
pins: 1 VOUT (out), 2 V- (power), 3 IN+ (in), 4 IN- (in), 5 V+ (power)

## LPV7215MG/NOPB
designator U?
Micropower, CMOS Input, RRIO, 1.8V, Push-Pull Output Comparator, 5-pin SC-70, Pb-Free; PartNumber: LPV7215MG/NOPB; Manufacturer: National Semiconductor; PackageTopMarking: C37*XTT; PowerWise: Y; CompType: Amplifiers; DatasheetVersion: Dec-2007; PackageVersion: revD, Jun-2007; PackageReference: MAA05A; PackageDescription: Molded SC-70, 2 x 1.25 x .9mm, 5 Lead, 0.65mm Pitch; RoHS: Y; PinCount: 5; High-Reliability: Y; Code_JEITA: SC-88A; Code_JEDEC: MO-203-AA; Code_IPC: SOT353-5; ComponentLink1Description: Manufacturer URL; ComponentLink1URL: http://www.national.com/; ComponentLink2Description: LPV7215 Datasheet; ComponentLink2URL: http://www.national.com/ds/LP/LPV7215.pdf; ComponentLink3Description: LPV7215 Web Page; ComponentLink3URL: http://www.national.com/pf/LP/LPV7215.html; ComponentLink4Description: MAA05A Package Page; ComponentLink4URL: http://www.national.com/packaging/folders/maa05a.html
footprint MAA05A_N (SOT353, 5-Leads, Body 2x1.3mm, Pitch 0.65mm, Lead Span 2.1mm, IPC Medium Density)
footprint MAA05A_L (SOT353, 5-Leads, Body 2x1.3mm, Pitch 0.65mm, Lead Span 2.1mm, IPC High Density)
footprint MAA05A_M (SOT353, 5-Leads, Body 2x1.3mm, Pitch 0.65mm, Lead Span 2.1mm, IPC Low Density)
pins: 1 VOUT (out), 2 V- (power), 3 IN+ (in), 4 IN- (in), 5 V+ (power)

## SM72501/NOPB
designator U?
SolarMagic Precision, CMOS Input, RRIO, Wide Supply Range Amplifier, 5-pin SOT-23, 1000 Reel; PartNumber: SM72501/NOPB; Manufacturer: National Semiconductor; PackageTopMarking: S501*XTT; PowerWise: N; CompType: Amplifiers; High-Reliability: Y; DatasheetVersion: May-2011; PackageVersion: revD, Aug-2008; PackageReference: MF05A; PackageDescription: Molded SOT-23, .115 x .063 x .040 in Body, 5 Lead, .0375 in Pitch; RoHS: Y; PinCount: 5; ComponentLink1Description: Manufacturer URL; ComponentLink1URL: http://www.national.com/; ComponentLink2Description: SM72501 Datasheet; ComponentLink2URL: http://www.national.com/ds/SM/SM72501.pdf; ComponentLink3Description: SM72501 Web Page; ComponentLink3URL: http://www.national.com/pf/SM/SM72501.html; ComponentLink4Description: MF05A Package Page; ComponentLink4URL: http://www.national.com/packaging/folders/mf05a.html
footprint MF05A_N (SOT23, 5-Leads, Body 2.9x1.6mm, Pitch 0.95mm, Lead Span 2.8mm, IPC Medium Density)
footprint MF05A_L (SOT23, 5-Leads, Body 2.9x1.6mm, Pitch 0.95mm, Lead Span 2.8mm, IPC High Density)
footprint MF05A_M (SOT23, 5-Leads, Body 2.9x1.6mm, Pitch 0.95mm, Lead Span 2.8mm, IPC Low Density)
pins: 1 OUT (out), 2 V- (power), 3 IN+ (in), 4 IN- (in), 5 V+ (power)

## SM72501E/NOPB
designator U?
SolarMagic Precision, CMOS Input, RRIO, Wide Supply Range Amplifier, 5-pin SOT-23, 250 Reel; PartNumber: SM72501E/NOPB; Manufacturer: National Semiconductor; PackageTopMarking: S501*XTT; PowerWise: N; CompType: Amplifiers; High-Reliability: Y; DatasheetVersion: May-2011; PackageVersion: revD, Aug-2008; PackageReference: MF05A; PackageDescription: Molded SOT-23, .115 x .063 x .040 in Body, 5 Lead, .0375 in Pitch; RoHS: Y; PinCount: 5; ComponentLink1Description: Manufacturer URL; ComponentLink1URL: http://www.national.com/; ComponentLink2Description: SM72501 Datasheet; ComponentLink2URL: http://www.national.com/ds/SM/SM72501.pdf; ComponentLink3Description: SM72501 Web Page; ComponentLink3URL: http://www.national.com/pf/SM/SM72501.html; ComponentLink4Description: MF05A Package Page; ComponentLink4URL: http://www.national.com/packaging/folders/mf05a.html
footprint MF05A_N (SOT23, 5-Leads, Body 2.9x1.6mm, Pitch 0.95mm, Lead Span 2.8mm, IPC Medium Density)
footprint MF05A_L (SOT23, 5-Leads, Body 2.9x1.6mm, Pitch 0.95mm, Lead Span 2.8mm, IPC High Density)
footprint MF05A_M (SOT23, 5-Leads, Body 2.9x1.6mm, Pitch 0.95mm, Lead Span 2.8mm, IPC Low Density)
pins: 1 OUT (out), 2 V- (power), 3 IN+ (in), 4 IN- (in), 5 V+ (power)

## SM72501MF/NOPB
designator U?
SolarMagic Precision, CMOS Input, RRIO, Wide Supply Range Amplifier, 5-pin SOT-23, 1000 Reel; PartNumber: SM72501MF/NOPB; Manufacturer: National Semiconductor; PackageTopMarking: S501*XTT; PowerWise: N; CompType: Amplifiers; High-Reliability: Y; DatasheetVersion: May-2011; PackageVersion: revD, Aug-2008; PackageReference: MF05A; PackageDescription: Molded SOT-23, .115 x .063 x .040 in Body, 5 Lead, .0375 in Pitch; RoHS: Y; PinCount: 5; ComponentLink1Description: Manufacturer URL; ComponentLink1URL: http://www.national.com/; ComponentLink2Description: SM72501 Datasheet; ComponentLink2URL: http://www.national.com/ds/SM/SM72501.pdf; ComponentLink3Description: SM72501 Web Page; ComponentLink3URL: http://www.national.com/pf/SM/SM72501.html; ComponentLink4Description: MF05A Package Page; ComponentLink4URL: http://www.national.com/packaging/folders/mf05a.html
footprint MF05A_N (SOT23, 5-Leads, Body 2.9x1.6mm, Pitch 0.95mm, Lead Span 2.8mm, IPC Medium Density)
footprint MF05A_L (SOT23, 5-Leads, Body 2.9x1.6mm, Pitch 0.95mm, Lead Span 2.8mm, IPC High Density)
footprint MF05A_M (SOT23, 5-Leads, Body 2.9x1.6mm, Pitch 0.95mm, Lead Span 2.8mm, IPC Low Density)
pins: 1 OUT (out), 2 V- (power), 3 IN+ (in), 4 IN- (in), 5 V+ (power)

## SM72501MFE/NOPB
designator U?
SolarMagic Precision, CMOS Input, RRIO, Wide Supply Range Amplifier, 5-pin SOT-23, 250 Reel; PartNumber: SM72501MFE/NOPB; Manufacturer: National Semiconductor; PackageTopMarking: S501*XTT; PowerWise: N; CompType: Amplifiers; High-Reliability: Y; DatasheetVersion: May-2011; PackageVersion: revD, Aug-2008; PackageReference: MF05A; PackageDescription: Molded SOT-23, .115 x .063 x .040 in Body, 5 Lead, .0375 in Pitch; RoHS: Y; PinCount: 5; ComponentLink1Description: Manufacturer URL; ComponentLink1URL: http://www.national.com/; ComponentLink2Description: SM72501 Datasheet; ComponentLink2URL: http://www.national.com/ds/SM/SM72501.pdf; ComponentLink3Description: SM72501 Web Page; ComponentLink3URL: http://www.national.com/pf/SM/SM72501.html; ComponentLink4Description: MF05A Package Page; ComponentLink4URL: http://www.national.com/packaging/folders/mf05a.html
footprint MF05A_N (SOT23, 5-Leads, Body 2.9x1.6mm, Pitch 0.95mm, Lead Span 2.8mm, IPC Medium Density)
footprint MF05A_L (SOT23, 5-Leads, Body 2.9x1.6mm, Pitch 0.95mm, Lead Span 2.8mm, IPC High Density)
footprint MF05A_M (SOT23, 5-Leads, Body 2.9x1.6mm, Pitch 0.95mm, Lead Span 2.8mm, IPC Low Density)
pins: 1 OUT (out), 2 V- (power), 3 IN+ (in), 4 IN- (in), 5 V+ (power)

## SM72501MFX/NOPB
designator U?
SolarMagic Precision, CMOS Input, RRIO, Wide Supply Range Amplifier, 5-pin SOT-23, 3000 Reel; PartNumber: SM72501MFX/NOPB; Manufacturer: National Semiconductor; PackageTopMarking: S501*XTT; PowerWise: N; CompType: Amplifiers; High-Reliability: Y; DatasheetVersion: May-2011; PackageVersion: revD, Aug-2008; PackageReference: MF05A; PackageDescription: Molded SOT-23, .115 x .063 x .040 in Body, 5 Lead, .0375 in Pitch; RoHS: Y; PinCount: 5; ComponentLink1Description: Manufacturer URL; ComponentLink1URL: http://www.national.com/; ComponentLink2Description: SM72501 Datasheet; ComponentLink2URL: http://www.national.com/ds/SM/SM72501.pdf; ComponentLink3Description: SM72501 Web Page; ComponentLink3URL: http://www.national.com/pf/SM/SM72501.html; ComponentLink4Description: MF05A Package Page; ComponentLink4URL: http://www.national.com/packaging/folders/mf05a.html
footprint MF05A_N (SOT23, 5-Leads, Body 2.9x1.6mm, Pitch 0.95mm, Lead Span 2.8mm, IPC Medium Density)
footprint MF05A_L (SOT23, 5-Leads, Body 2.9x1.6mm, Pitch 0.95mm, Lead Span 2.8mm, IPC High Density)
footprint MF05A_M (SOT23, 5-Leads, Body 2.9x1.6mm, Pitch 0.95mm, Lead Span 2.8mm, IPC Low Density)
pins: 1 OUT (out), 2 V- (power), 3 IN+ (in), 4 IN- (in), 5 V+ (power)

## SM72501X/NOPB
designator U?
SolarMagic Precision, CMOS Input, RRIO, Wide Supply Range Amplifier, 5-pin SOT-23, 3000 Reel; PartNumber: SM72501X/NOPB; Manufacturer: National Semiconductor; PackageTopMarking: S501*XTT; PowerWise: N; CompType: Amplifiers; High-Reliability: Y; DatasheetVersion: May-2011; PackageVersion: revD, Aug-2008; PackageReference: MF05A; PackageDescription: Molded SOT-23, .115 x .063 x .040 in Body, 5 Lead, .0375 in Pitch; RoHS: Y; PinCount: 5; ComponentLink1Description: Manufacturer URL; ComponentLink1URL: http://www.national.com/; ComponentLink2Description: SM72501 Datasheet; ComponentLink2URL: http://www.national.com/ds/SM/SM72501.pdf; ComponentLink3Description: SM72501 Web Page; ComponentLink3URL: http://www.national.com/pf/SM/SM72501.html; ComponentLink4Description: MF05A Package Page; ComponentLink4URL: http://www.national.com/packaging/folders/mf05a.html
footprint MF05A_N (SOT23, 5-Leads, Body 2.9x1.6mm, Pitch 0.95mm, Lead Span 2.8mm, IPC Medium Density)
footprint MF05A_L (SOT23, 5-Leads, Body 2.9x1.6mm, Pitch 0.95mm, Lead Span 2.8mm, IPC High Density)
footprint MF05A_M (SOT23, 5-Leads, Body 2.9x1.6mm, Pitch 0.95mm, Lead Span 2.8mm, IPC Low Density)
pins: 1 OUT (out), 2 V- (power), 3 IN+ (in), 4 IN- (in), 5 V+ (power)

## SM73301MF/NOPB
designator U?
RRIO, High Output Current & Unlimited Cap Load Op Amp in SOT23-5, 5-pin SOT-23; PartNumber: SM73301MF/NOPB; Manufacturer: National Semiconductor; PackageTopMarking: R134*XTT; PowerWise: N; CompType: Amplifiers; High-Reliability: Y; DatasheetVersion: Jul-2011; PackageVersion: revD, Aug-2008; PackageReference: MF05A; PackageDescription: Molded SOT-23, .115 x .063 x .040 in Body, 5 Lead, .0375 in Pitch; RoHS: Y; PinCount: 5; ComponentLink1Description: Manufacturer URL; ComponentLink1URL: http://www.national.com/; ComponentLink2Description: SM73301 Datasheet; ComponentLink2URL: http://www.national.com/ds/SM/SM73301.pdf; ComponentLink3Description: SM73301 Web Page; ComponentLink3URL: http://www.national.com/pf/SM/SM73301.html; ComponentLink4Description: MF05A Package Page; ComponentLink4URL: http://www.national.com/packaging/folders/mf05a.html
footprint MF05A_N (SOT23, 5-Leads, Body 2.9x1.6mm, Pitch 0.95mm, Lead Span 2.8mm, IPC Medium Density)
footprint MF05A_L (SOT23, 5-Leads, Body 2.9x1.6mm, Pitch 0.95mm, Lead Span 2.8mm, IPC High Density)
footprint MF05A_M (SOT23, 5-Leads, Body 2.9x1.6mm, Pitch 0.95mm, Lead Span 2.8mm, IPC Low Density)
pins: 1 OUT (out), 2 V- (power), 3 IN+ (in), 4 IN- (in), 5 V+ (power)

## SM73301MFE/NOPB
designator U?
RRIO, High Output Current & Unlimited Cap Load Op Amp in SOT23-5, 5-pin SOT-23; PartNumber: SM73301MFE/NOPB; Manufacturer: National Semiconductor; PackageTopMarking: R134*XTT; PowerWise: N; CompType: Amplifiers; High-Reliability: Y; DatasheetVersion: Jul-2011; PackageVersion: revD, Aug-2008; PackageReference: MF05A; PackageDescription: Molded SOT-23, .115 x .063 x .040 in Body, 5 Lead, .0375 in Pitch; RoHS: Y; PinCount: 5; ComponentLink1Description: Manufacturer URL; ComponentLink1URL: http://www.national.com/; ComponentLink2Description: SM73301 Datasheet; ComponentLink2URL: http://www.national.com/ds/SM/SM73301.pdf; ComponentLink3Description: SM73301 Web Page; ComponentLink3URL: http://www.national.com/pf/SM/SM73301.html; ComponentLink4Description: MF05A Package Page; ComponentLink4URL: http://www.national.com/packaging/folders/mf05a.html
footprint MF05A_N (SOT23, 5-Leads, Body 2.9x1.6mm, Pitch 0.95mm, Lead Span 2.8mm, IPC Medium Density)
footprint MF05A_L (SOT23, 5-Leads, Body 2.9x1.6mm, Pitch 0.95mm, Lead Span 2.8mm, IPC High Density)
footprint MF05A_M (SOT23, 5-Leads, Body 2.9x1.6mm, Pitch 0.95mm, Lead Span 2.8mm, IPC Low Density)
pins: 1 OUT (out), 2 V- (power), 3 IN+ (in), 4 IN- (in), 5 V+ (power)

## SM73301MFX/NOPB
designator U?
RRIO, High Output Current & Unlimited Cap Load Op Amp in SOT23-5, 5-pin SOT-23; PartNumber: SM73301MFX/NOPB; Manufacturer: National Semiconductor; PackageTopMarking: R134*XTT; PowerWise: N; CompType: Amplifiers; High-Reliability: Y; DatasheetVersion: Jul-2011; PackageVersion: revD, Aug-2008; PackageReference: MF05A; PackageDescription: Molded SOT-23, .115 x .063 x .040 in Body, 5 Lead, .0375 in Pitch; RoHS: Y; PinCount: 5; ComponentLink1Description: Manufacturer URL; ComponentLink1URL: http://www.national.com/; ComponentLink2Description: SM73301 Datasheet; ComponentLink2URL: http://www.national.com/ds/SM/SM73301.pdf; ComponentLink3Description: SM73301 Web Page; ComponentLink3URL: http://www.national.com/pf/SM/SM73301.html; ComponentLink4Description: MF05A Package Page; ComponentLink4URL: http://www.national.com/packaging/folders/mf05a.html
footprint MF05A_N (SOT23, 5-Leads, Body 2.9x1.6mm, Pitch 0.95mm, Lead Span 2.8mm, IPC Medium Density)
footprint MF05A_L (SOT23, 5-Leads, Body 2.9x1.6mm, Pitch 0.95mm, Lead Span 2.8mm, IPC High Density)
footprint MF05A_M (SOT23, 5-Leads, Body 2.9x1.6mm, Pitch 0.95mm, Lead Span 2.8mm, IPC Low Density)
pins: 1 OUT (out), 2 V- (power), 3 IN+ (in), 4 IN- (in), 5 V+ (power)

## SM73302MF/NOPB
designator U?
88 MHz, Precision, Low Noise, 1.8V CMOS Input, Decompensated Operational Amplifier, 5-pin SOT-23; PartNumber: SM73302MF/NOPB; Manufacturer: National Semiconductor; PackageTopMarking: SC3B*XTT; PowerWise: N; CompType: Amplifiers; High-Reliability: Y; DatasheetVersion: Aug-2011; PackageVersion: revD, Aug-2008; PackageReference: MF05A; PackageDescription: Molded SOT-23, .115 x .063 x .040 in Body, 5 Lead, .0375 in Pitch; RoHS: Y; PinCount: 5; ComponentLink1Description: Manufacturer URL; ComponentLink1URL: http://www.national.com/; ComponentLink2Description: SM73302 Datasheet; ComponentLink2URL: http://www.national.com/ds/SM/SM73302.pdf; ComponentLink3Description: SM73302 Web Page; ComponentLink3URL: http://www.national.com/pf/SM/SM73302.html; ComponentLink4Description: MF05A Package Page; ComponentLink4URL: http://www.national.com/packaging/folders/mf05a.html
footprint MF05A_N (SOT23, 5-Leads, Body 2.9x1.6mm, Pitch 0.95mm, Lead Span 2.8mm, IPC Medium Density)
footprint MF05A_L (SOT23, 5-Leads, Body 2.9x1.6mm, Pitch 0.95mm, Lead Span 2.8mm, IPC High Density)
footprint MF05A_M (SOT23, 5-Leads, Body 2.9x1.6mm, Pitch 0.95mm, Lead Span 2.8mm, IPC Low Density)
pins: 1 OUT (out), 2 V- (power), 3 IN+ (in), 4 IN- (in), 5 V+ (power)

## SM73302MFE/NOPB
designator U?
88 MHz, Precision, Low Noise, 1.8V CMOS Input, Decompensated Operational Amplifier, 5-pin SOT-23; PartNumber: SM73302MFE/NOPB; Manufacturer: National Semiconductor; PackageTopMarking: SC3B*XTT; PowerWise: N; CompType: Amplifiers; High-Reliability: Y; DatasheetVersion: Aug-2011; PackageVersion: revD, Aug-2008; PackageReference: MF05A; PackageDescription: Molded SOT-23, .115 x .063 x .040 in Body, 5 Lead, .0375 in Pitch; RoHS: Y; PinCount: 5; ComponentLink1Description: Manufacturer URL; ComponentLink1URL: http://www.national.com/; ComponentLink2Description: SM73302 Datasheet; ComponentLink2URL: http://www.national.com/ds/SM/SM73302.pdf; ComponentLink3Description: SM73302 Web Page; ComponentLink3URL: http://www.national.com/pf/SM/SM73302.html; ComponentLink4Description: MF05A Package Page; ComponentLink4URL: http://www.national.com/packaging/folders/mf05a.html
footprint MF05A_N (SOT23, 5-Leads, Body 2.9x1.6mm, Pitch 0.95mm, Lead Span 2.8mm, IPC Medium Density)
footprint MF05A_L (SOT23, 5-Leads, Body 2.9x1.6mm, Pitch 0.95mm, Lead Span 2.8mm, IPC High Density)
footprint MF05A_M (SOT23, 5-Leads, Body 2.9x1.6mm, Pitch 0.95mm, Lead Span 2.8mm, IPC Low Density)
pins: 1 OUT (out), 2 V- (power), 3 IN+ (in), 4 IN- (in), 5 V+ (power)

## SM73302MFX/NOPB
designator U?
88 MHz, Precision, Low Noise, 1.8V CMOS Input, Decompensated Operational Amplifier, 5-pin SOT-23; PartNumber: SM73302MFX/NOPB; Manufacturer: National Semiconductor; PackageTopMarking: SC3B*XTT; PowerWise: N; CompType: Amplifiers; High-Reliability: Y; DatasheetVersion: Aug-2011; PackageVersion: revD, Aug-2008; PackageReference: MF05A; PackageDescription: Molded SOT-23, .115 x .063 x .040 in Body, 5 Lead, .0375 in Pitch; RoHS: Y; PinCount: 5; ComponentLink1Description: Manufacturer URL; ComponentLink1URL: http://www.national.com/; ComponentLink2Description: SM73302 Datasheet; ComponentLink2URL: http://www.national.com/ds/SM/SM73302.pdf; ComponentLink3Description: SM73302 Web Page; ComponentLink3URL: http://www.national.com/pf/SM/SM73302.html; ComponentLink4Description: MF05A Package Page; ComponentLink4URL: http://www.national.com/packaging/folders/mf05a.html
footprint MF05A_N (SOT23, 5-Leads, Body 2.9x1.6mm, Pitch 0.95mm, Lead Span 2.8mm, IPC Medium Density)
footprint MF05A_L (SOT23, 5-Leads, Body 2.9x1.6mm, Pitch 0.95mm, Lead Span 2.8mm, IPC High Density)
footprint MF05A_M (SOT23, 5-Leads, Body 2.9x1.6mm, Pitch 0.95mm, Lead Span 2.8mm, IPC Low Density)
pins: 1 OUT (out), 2 V- (power), 3 IN+ (in), 4 IN- (in), 5 V+ (power)

## SM73303MM/NOPB
designator U?
5 MHz, Low Noise, RRO, Dual Operational Amplifier with CMOS Input, 8-pin Mini SOIC; PartNumber: SM73303MM/NOPB; Manufacturer: National Semiconductor; PackageTopMarking: ZXTT*S303; PowerWise: N; CompType: Amplifiers; High-Reliability: Y; DatasheetVersion: Jul-2011; PackageVersion: revF, Apr-2008; PackageReference: MUA08A; PackageDescription: MINI SOIC, .118 x .118 x .034in, 8 Lead, .0256in Pitch; RoHS: Y; PinCount: 8; Code_JEDEC: MO-187-AA; ComponentLink1Description: Manufacturer URL; ComponentLink1URL: http://www.national.com/; ComponentLink2Description: SM73303 Datasheet; ComponentLink2URL: http://www.national.com/ds/SM/SM73303.pdf; ComponentLink3Description: SM73303 Web Page; ComponentLink3URL: http://www.national.com/pf/SM/SM73303.html; ComponentLink4Description: MUA08A Package Page; ComponentLink4URL: http://www.national.com/packaging/folders/mua08a.html
footprint MUA08A_N (TSOP, 8-Leads, Body 3x3mm, Pitch 0.65mm, IPC Medium Density)
footprint MUA08A_L (TSOP, 8-Leads, Body 3x3mm, Pitch 0.65mm, IPC High Density)
footprint MUA08A_M (TSOP, 8-Leads, Body 3x3mm, Pitch 0.65mm, IPC Low Density)
pins on every part: 4 V- (power), 8 V+ (power)
part A pins: 1 OUTA (out), 2 INA- (in), 3 INA+ (in)
part B pins: 5 INB+ (in), 6 INB- (in), 7 OUTB (out)

## SM73303MME/NOPB
designator U?
5 MHz, Low Noise, RRO, Dual Operational Amplifier with CMOS Input, 8-pin Mini SOIC; PartNumber: SM73303MME/NOPB; Manufacturer: National Semiconductor; PackageTopMarking: ZXTT*S303; PowerWise: N; CompType: Amplifiers; High-Reliability: Y; DatasheetVersion: Jul-2011; PackageVersion: revF, Apr-2008; PackageReference: MUA08A; PackageDescription: MINI SOIC, .118 x .118 x .034in, 8 Lead, .0256in Pitch; RoHS: Y; PinCount: 8; Code_JEDEC: MO-187-AA; ComponentLink1Description: Manufacturer URL; ComponentLink1URL: http://www.national.com/; ComponentLink2Description: SM73303 Datasheet; ComponentLink2URL: http://www.national.com/ds/SM/SM73303.pdf; ComponentLink3Description: SM73303 Web Page; ComponentLink3URL: http://www.national.com/pf/SM/SM73303.html; ComponentLink4Description: MUA08A Package Page; ComponentLink4URL: http://www.national.com/packaging/folders/mua08a.html
footprint MUA08A_N (TSOP, 8-Leads, Body 3x3mm, Pitch 0.65mm, IPC Medium Density)
footprint MUA08A_L (TSOP, 8-Leads, Body 3x3mm, Pitch 0.65mm, IPC High Density)
footprint MUA08A_M (TSOP, 8-Leads, Body 3x3mm, Pitch 0.65mm, IPC Low Density)
pins on every part: 4 V- (power), 8 V+ (power)
part A pins: 1 OUTA (out), 2 INA- (in), 3 INA+ (in)
part B pins: 5 INB+ (in), 6 INB- (in), 7 OUTB (out)